# Altium footprint library MMT_OtherComponents.PcbLib: 35 footprints (part 3 of 3)
Each footprint in its own frame and in the unit in brackets; x right, y up, seen from the top. Pads: shape width x height; smd on the part's side, far side on the other; paste and mask are expansions set on the pad; w line width, h text height; cw(c..) or ccw(c..) is an arc to the next point about the centre after c.
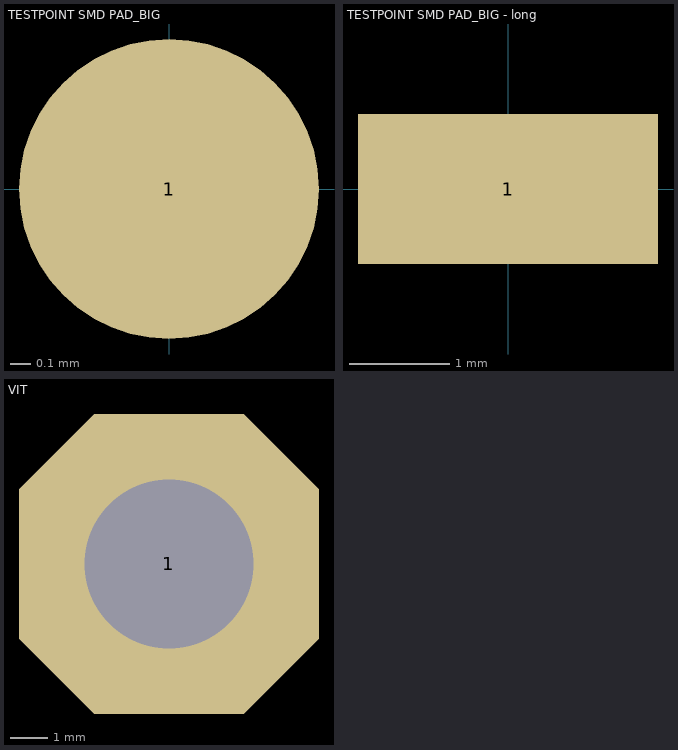
[diagram p2: the footprints below, top view; thin cyan lines are the x and y axes]

## TESTPOINT SMD PAD_BIG [mm]
pads (1):
  round 1.5 smd mask+0.3: 1(0,0)

## TESTPOINT SMD PAD_BIG - long [mm]
pads (1):
  rect 3x1.5 smd mask+0.3: 1(0,0)

## VIT [mm] "VIT"
height 0.005
pads (1):
  oct 8x8 hole 4.5: 1(-115.665,20.903)